# Altium schematic symbol library TPS62743.SchLib: 1 symbol
Pins are listed as number, name and electrical type; pins without a type are passive.

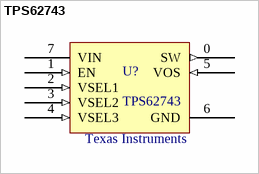
[diagram p0: symbol TPS62743]

## TPS62743
designator U?  Mfr 1: Texas Instruments
High EfficiencyBuck Converterwith Ultra-lowQuiescentCurrent
footprint BGA8C40P2X4_87X156X50 (BGA, 8-Leads, Body 0,87x1,56mmx0,50mm, Pitch 0,40mm)
pins: 0 SW (out), 1 EN (in), 2 VSEL1 (in), 3 VSEL2 (in), 4 VSEL3 (in), 5 VOS (in), 6 GND (power), 7 VIN (power)